# Altium footprint library WE-FB_EP13_P16.36.PcbLib: 1 footprints
Each footprint in its own frame and in the unit in brackets; x right, y up, seen from the top. Pads: shape width x height; smd on the part's side, far side on the other; paste and mask are expansions set on the pad; w line width, h text height; cw(c..) or ccw(c..) is an arc to the next point about the centre after c.
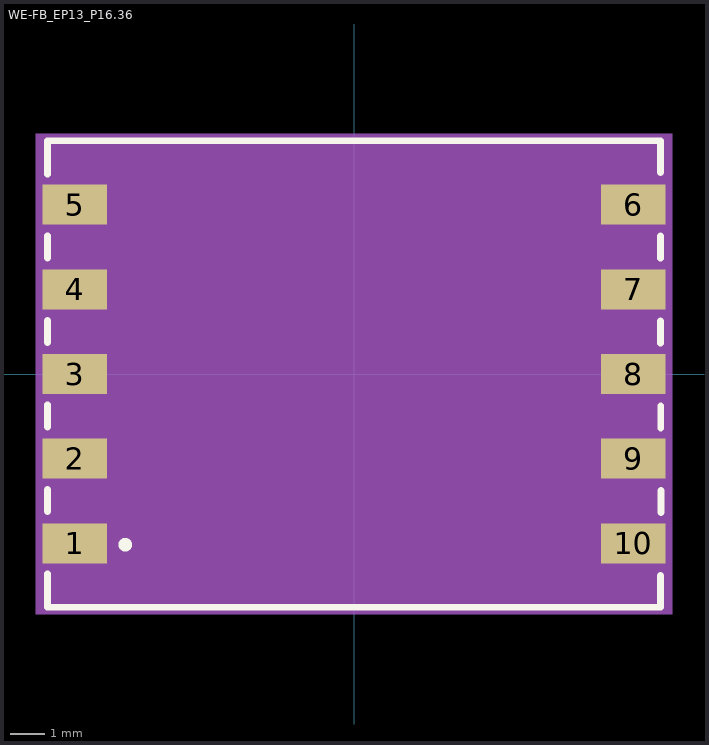
[diagram p0: the footprint, top view; thin cyan lines are the x and y axes]

## WE-FB_EP13_P16.36 [mm]
pads (10):
  rect 1.88x1.17 smd paste+0 mask+0.102: 1(-8.18,-4.96) 2(-8.18,-2.48) 3(-8.18,0) 4(-8.18,2.48) 5(-8.18,4.96) 6(8.18,4.96) 7(8.18,2.48) 8(8.18,0) 9(8.18,-2.48) 10(8.18,-4.96)
Top Overlay:
  circle w0.2: c-6.7,-5 r0.1
  lines w0.2: -8.975,-5.85 -8.975,-6.83 8.975,-6.83 8.975,-5.9 ; -8.975,-4.03 -8.975,-3.38 ; -8.975,-1.55 -8.975,-0.9 ; -8.975,0.92 -8.975,1.57 ; -8.975,3.4 -8.975,4.05 ; -8.975,5.85 -8.975,6.83 8.975,6.83 8.975,5.9 ; 8.975,0.9 8.975,1.55 ; 8.975,3.39 8.975,4.04 ; 8.985,-1.58 8.985,-0.93 ; 8.995,-4.06 8.995,-3.41
Assembly Top:
  lines w0.1: -8.875,-6.73 -8.875,6.73 8.875,6.73 8.875,-6.73 -8.875,-6.73
  text "1" at -6.2,-5.5 h1.02
  text "5" at -6.45,4.4 h1.02
  text "6" at 6,4.35 h1.02
  text "10" at 5.2,-5.55 h1.02
Courtyard Top:
  region: 9.32,-7.03 -9.32,-7.03 -9.32,7.03 9.32,7.03
3D body "step_temp.STEP": height 12.52, standoff 0.02, extent -8.748,-6.75 9.002,6.75